# Altium footprint library Teensy.PcbLib: 1 footprints
Each footprint in its own frame and in the unit in brackets; x right, y up, seen from the top. Pads: shape width x height; smd on the part's side, far side on the other; paste and mask are expansions set on the pad; w line width, h text height; cw(c..) or ccw(c..) is an arc to the next point about the centre after c.
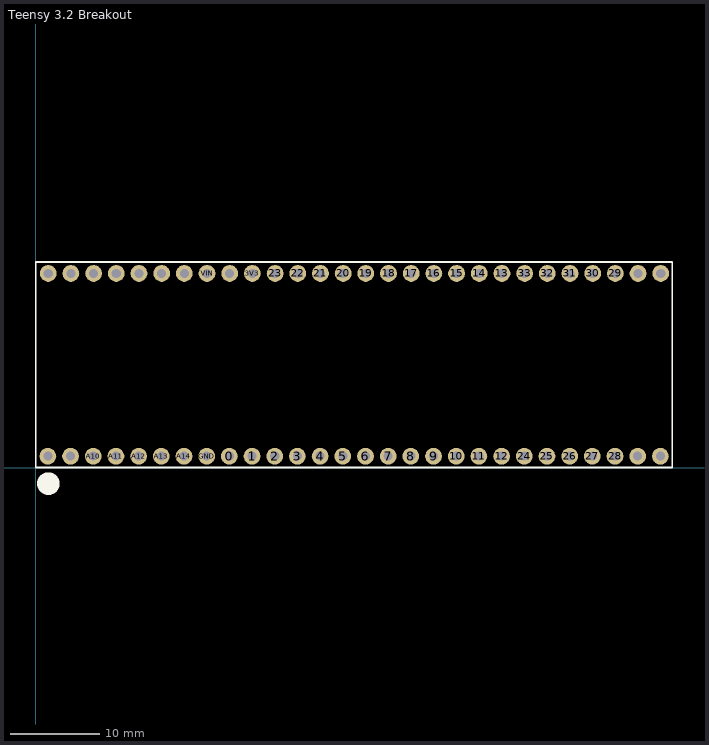
[diagram p0: the footprint, top view; thin cyan lines are the x and y axes]

## Teensy 3.2 Breakout [mil]
pads (56):
  round 74 hole 40: 0(853.15,50) 1(953.15,50) 2(1053.15,50) 3(1153.15,50) 3V3(954.68,855.51) 4(1253.15,50) 5(1353.15,50) 6(1453.15,50) 7(1553.15,50) 8(1653.15,50) 9(1753.15,50) 10(1853.15,50) 11(1953.15,50) 12(2053.15,50) 13(2054.68,855.51) 14(1954.68,855.51) 15(1854.68,855.51) 16(1754.68,855.51) 17(1654.68,855.51) 18(1554.68,855.51) 19(1454.68,855.51) 20(1354.68,855.51) 21(1254.68,855.51) 22(1154.68,855.51) 23(1054.68,855.51) 24(2153.15,50) 25(2253.15,50) 26(2353.15,50) 27(2453.15,50) 28(2553.15,50) 29(2554.68,855.51) 30(2454.68,855.51) 31(2354.68,855.51) 32(2254.68,855.51) 33(2154.68,855.51) A10(253.15,50) A11(353.15,50) A12(453.15,50) A13(553.15,50) A14(653.15,50) AGND(854.68,855.51) AREF(554.68,855.51) GND(753.15,50) PRGM(654.68,855.51) RESET(254.69,855.51) SWCLK(2653.15,50) SWDIO(2753.15,50) USBD+(153.15,50) USBD-(53.15,50) USBID(54.69,855.51) VBAT(354.69,855.51) VDDA(154.69,855.51) VIN(754.68,855.51) VUSB(454.69,855.51) XTAL1(2754.68,855.51) XTAL2(2654.68,855.51)
Top Overlay:
  circle w78.74: c55.12,-70.87 r10.28
  lines w7.87: 0,0 0,905.51 2805.12,905.51 2805.12,0 0,0